# EAGLE library part LM9022M (library LM9022)
The LM9022 is a bridged power amplifier capable of delivering typically 2W of continuous average power into a 10Ω filament load when powered by a 5V power supply. To conserve power in portable applications, the LM9022’s micropower shutdown mode (IQ = 0.6µA, typ) is activated when VDD is applied to the SHUTDOWN pin. Additional LM9022 features include thermal shutdown protection, unity-gain stability, and external gain set
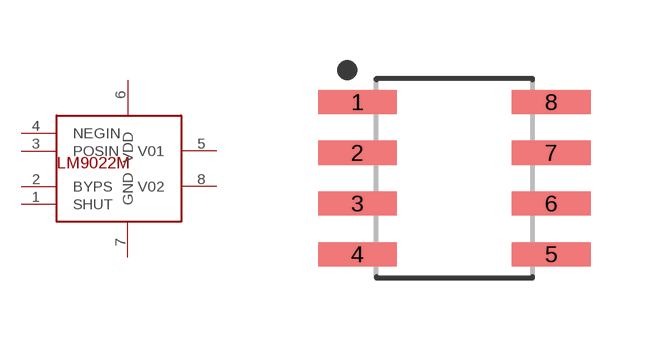
[diagram p0: symbol with the pads of SOIC127P590X265-8N; footprint SOIC127P590X265-8N]

Designator prefix -

## LM9022M (PARTNO: LM9022)  [SOIC127P590X265-8N]
1  SHUT
2  BYPS
3  POSIN
4  NEGIN
5  V01
6  VDD
7  GND
8  V02

## Footprint SOIC127P590X265-8N (pad centres in mm)
8-SOIC, 1.27 mm pitch, 5.90 mm span, 4.90 X 3.85 X 2.65 mm body 8-pin SOIC package with 1.27 mm pitch, 5.90 mm span with body size 4.90 X 3.85 X 2.65 mm
smd 1.968 x 0.602: 1 -2.423,1.905; 2 -2.423,0.635; 3 -2.423,-0.635; 4 -2.423,-1.905; 5 2.423,-1.905; 6 2.423,-0.635; 7 2.423,0.635; 8 2.423,1.905